# Altium footprint library LED_LDSC512RI.PcbLib: 1 footprints
Each footprint in its own frame and in the unit in brackets; x right, y up, seen from the top. Pads: shape width x height; smd on the part's side, far side on the other; paste and mask are expansions set on the pad; w line width, h text height; cw(c..) or ccw(c..) is an arc to the next point about the centre after c.
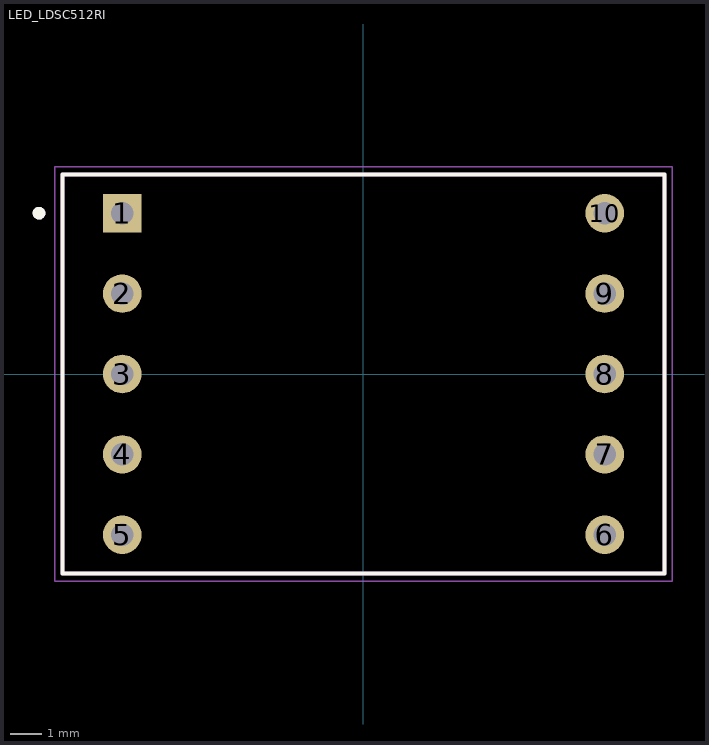
[diagram p0: the footprint, top view; thin cyan lines are the x and y axes]

## LED_LDSC512RI [mm]
height 8
pads (10):
  rect 1.218x1.218 / inner round 1.218 / far side rect 1.218x1.218 hole 0.71: 1(-7.62,5.08)
  round 1.218 hole 0.71: 2(-7.62,2.54) 3(-7.62,0) 4(-7.62,-2.54) 5(-7.62,-5.08) 6(7.62,-5.08) 7(7.62,-2.54) 8(7.62,0) 9(7.62,2.54) 10(7.62,5.08)
Top Overlay:
  circle w0.2: c-10.25,5.08 r0.1
  lines w0.127: -9.5,-6.3 9.5,-6.3 9.5,6.3 -9.5,6.3 -9.5,-6.3
Mechanical 13:
  circle w0.2: c-10.25,5.08 r0.1
  lines w0.127: -9.5,-6.3 9.5,-6.3 9.5,6.3 -9.5,6.3 -9.5,-6.3
Mechanical 15:
  lines w0.05: -9.75,-6.55 9.75,-6.55 9.75,6.55 -9.75,6.55 -9.75,-6.55
3D body "step_temp.STEP": height 8, standoff -4.5, extent -9.5,-6.3 9.5,6.3